# Altium integrated library Linear Technology Power Management uModule Regulators.IntLib: 166 symbols (part 59 of 67)
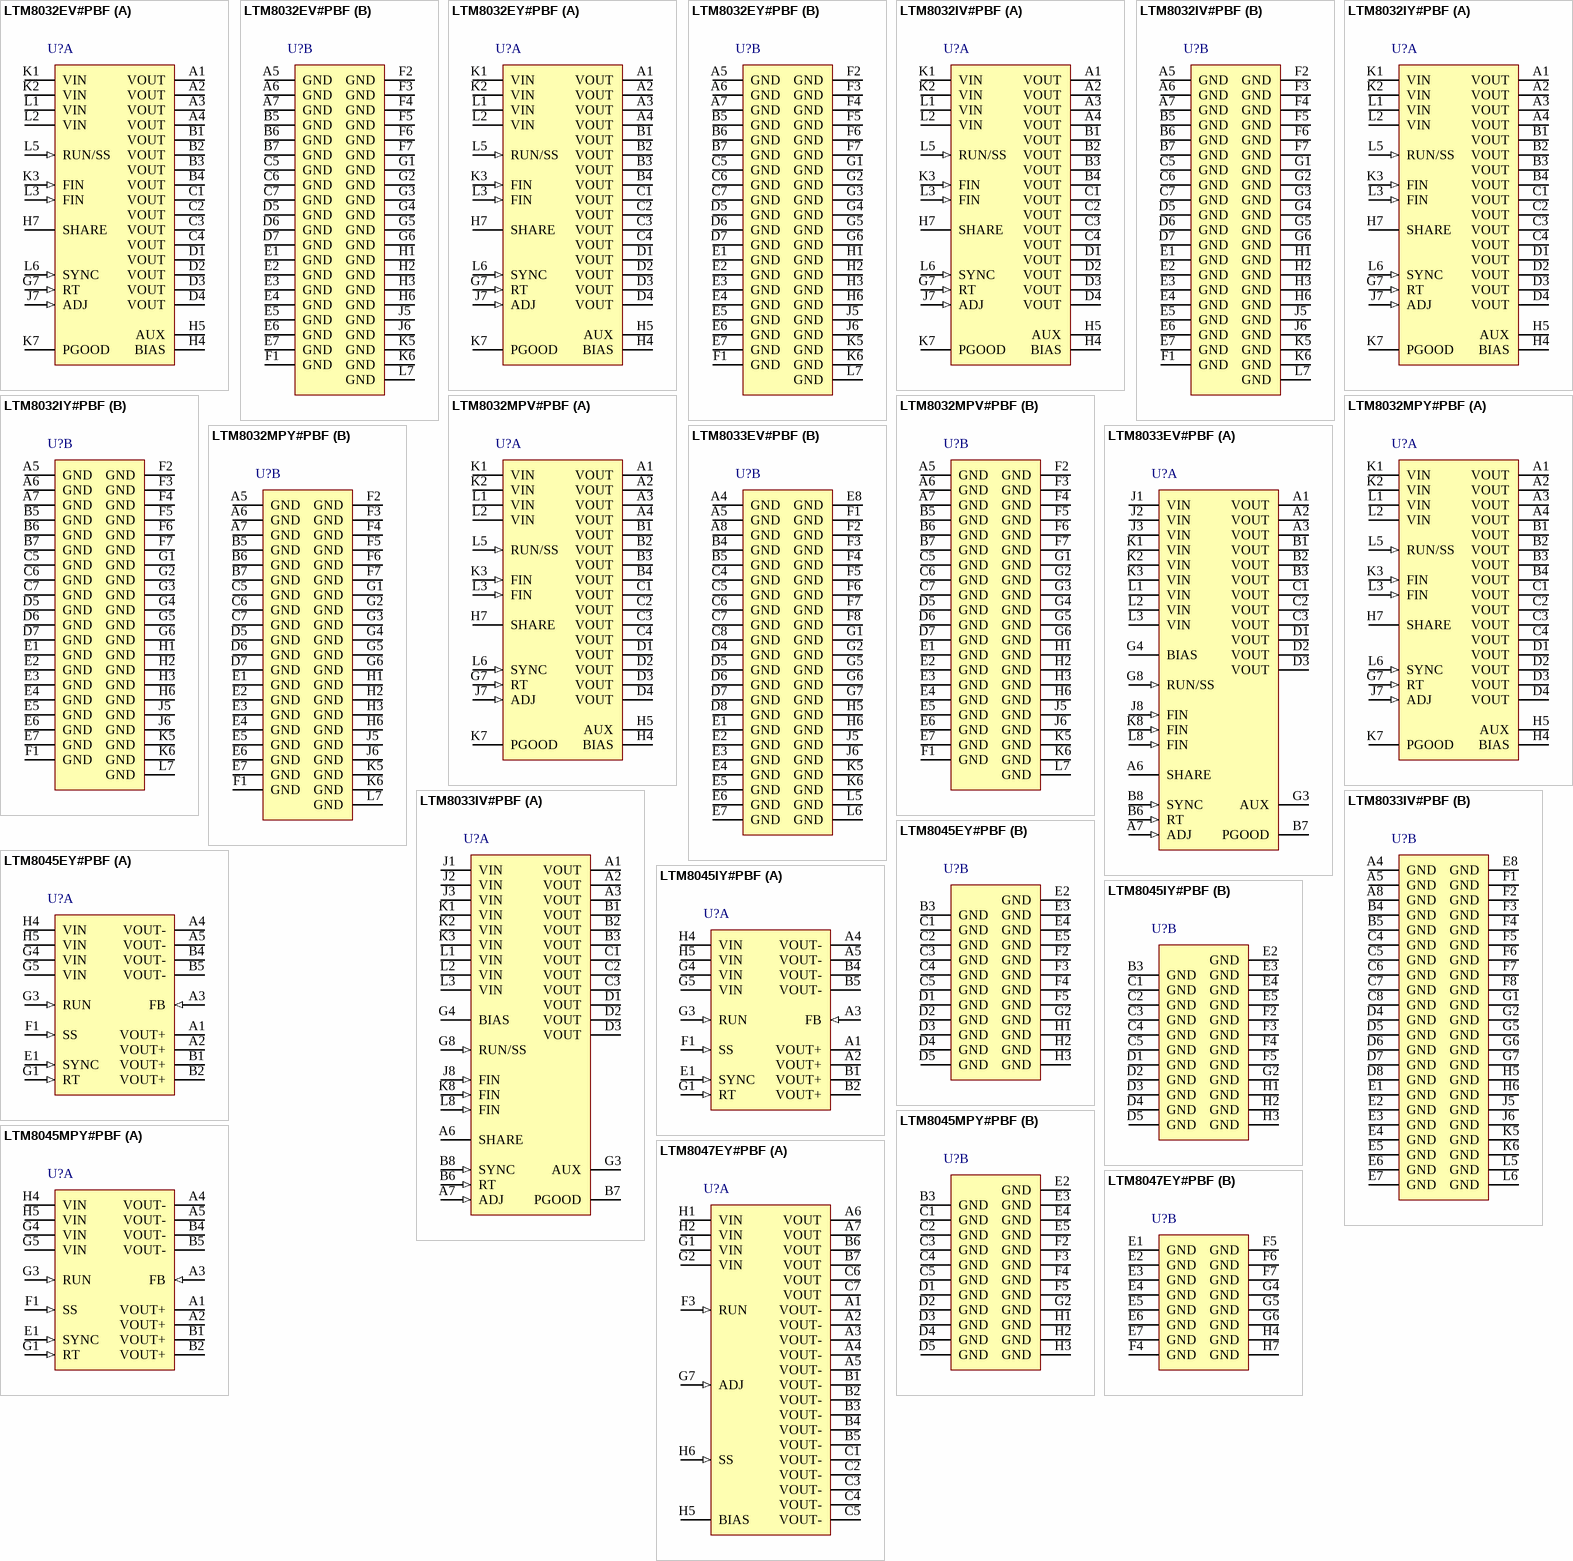
[diagram p85: symbols LTM8032EV#PBF to LTM8047EY#PBF]

## LTM8032MPV#PBF
designator U?
EN55022B Compliant 36 V, 2 A DC/DC uModule Regulator, 71-pin LGA, -55 to 125 degC, Pb-Free, Tray; Manufacturer: Linear Technology; PartNumber: LTM8032MPV#PBF; Extended Temp: E, I, MP; Frequency Adjust Range: 200kHz - 2.4MHz; Frequency Sync Range: 250kHz - 2MHz; Frequency(kHz): 2400; Ishutdown(uA): 1; Isupply(mA): 0.025; Output Current(A): 2; Switch Current(A): 3; Synchronous: no; Topology: Buck; Vin Max(V): 36; Vin Min(V): 3.6; DatasheetVersion: Rev. F; PackageVersion: Rev. A, 01/2013; PackageReference: LGA-71; PackageDescription: 71-Pin LGA, Body 15 x 9 mm, Pitch 1.27 mm; Supplier 1: Digi-Key; Supplier Part Number 1: LTM8032MPV#PBF-ND; Supplier 2: Newark; Supplier Part Number 2: 71P8120; Number of Outputs: 1; Packing: Tray; RoHS: TRUE; Tracking: no; Mounting Technology: Surface Mount; Code_JEDEC: MO-222; ComponentLink1Description: Manufacturer URL; ComponentLink1URL: http://www.linear.com/; ComponentLink2Description: Datasheet; ComponentLink2URL: http://cds.linear.com/docs/en/datasheet/8032ff.pdf; ComponentLink3Description: Package Specification; ComponentLink3URL: http://cds.linear.com/docs/en/packaging/05081823_A_lga71.pdf
footprint LT-LGA-71-15000X9000X2820_V (LGA, 71-Leads, Body 15x9mm, Pitch 1.27mm)
part A pins: A1 VOUT (power) "Power Output Pins. Apply the output filter capacitor and the output load between these pins and GND pins.", A2 VOUT (power) "Power Output Pins. Apply the output filter capacitor and the output load between these pins and GND pins.", A3 VOUT (power) "Power Output Pins. Apply the output filter capacitor and the output load between these pins and GND pins.", A4 VOUT (power) "Power Output Pins. Apply the output filter capacitor and the output load between these pins and GND pins.", B1 VOUT (power) "Power Output Pins. Apply the output filter capacitor and the output load between these pins and GND pins.", B2 VOUT (power) "Power Output Pins. Apply the output filter capacitor and the output load between these pins and GND pins.", B3 VOUT (power) "Power Output Pins. Apply the output filter capacitor and the output load between these pins and GND pins.", B4 VOUT (power) "Power Output Pins. Apply the output filter capacitor and the output load between these pins and GND pins.", C1 VOUT (power) "Power Output Pins. Apply the output filter capacitor and the output load between these pins and GND pins.", C2 VOUT (power) "Power Output Pins. Apply the output filter capacitor and the output load between these pins and GND pins.", C3 VOUT (power) "Power Output Pins. Apply the output filter capacitor and the output load between these pins and GND pins.", C4 VOUT (power) "Power Output Pins. Apply the output filter capacitor and the output load between these pins and GND pins.", D1 VOUT (power) "Power Output Pins. Apply the output filter capacitor and the output load between these pins and GND pins.", D2 VOUT (power) "Power Output Pins. Apply the output filter capacitor and the output load between these pins and GND pins.", D3 VOUT (power) "Power Output Pins. Apply the output filter capacitor and the output load between these pins and GND pins.", D4 VOUT (power) "Power Output Pins. Apply the output filter capacitor and the output load between these pins and GND pins.", G7 RT (in), H4 BIAS (power) "The BIAS pin connects to the internal power bus. Connect to a power source greater than 2.8V. If the output is greater than 2.8V, connect this pin to AUX. If the output voltage is less, connect this to a voltage source (See Datasheet)", H5 AUX (power) "Low Current Voltage Source for BIAS. The AUX pin is internally connected to VOUT and is placed adjacent to the BIAS pin to ease printed circuit board routing. Although this pin is internally connected to VOUT, do not connect (See Datasheet)", H7 SHARE, J7 ADJ (in), K1 VIN (power), K2 VIN (power), K3 FIN (in) "Filtered Input. This is the node after the input EMI filter. Use this only if there is a need to modify the behavior of the integrated EMI filter or if VIN rises or falls rapidly; otherwise, leave these pins unconnected. See (See Datasheet)", K7 PGOOD (oc) "The PGOOD pin is the open-collector output of an internal comparator. PGOOD remains low until the ADJ pin is within 10% of the final regulation voltage. The PGOOD output is valid when VIN is above 3.6V and RUN/SS is high. If (See Datasheet)", L1 VIN (power), L2 VIN (power), L3 FIN (in) "Filtered Input. This is the node after the input EMI filter. Use this only if there is a need to modify the behavior of the integrated EMI filter or if VIN rises or falls rapidly; otherwise, leave these pins unconnected. See (See Datasheet)", L5 RUN/SS (in), L6 SYNC (in) "This is the external clock synchronization input. Ground this pin for low ripple Burst Mode(R) operation at low output loads. Tie to a stable voltage source greater than 0.7V to disable Burst Mode operation. Do not leave (See Datasheet)"
part B pins: A5 GND (power), A6 GND (power), A7 GND (power), B5 GND (power), B6 GND (power), B7 GND (power), C5 GND (power), C6 GND (power), C7 GND (power), D5 GND (power), D6 GND (power), D7 GND (power), E1 GND (power), E2 GND (power), E3 GND (power), E4 GND (power), E5 GND (power), E6 GND (power), E7 GND (power), F1 GND (power), F2 GND (power), F3 GND (power), F4 GND (power), F5 GND (power), F6 GND (power), F7 GND (power), G1 GND (power), G2 GND (power), G3 GND (power), G4 GND (power), G5 GND (power), G6 GND (power), H1 GND (power), H2 GND (power), H3 GND (power), H6 GND (power), J5 GND (power), J6 GND (power), K5 GND (power), K6 GND (power), L7 GND (power)

## LTM8032MPY#PBF
designator U?
EN55022B Compliant 36 V, 2 A DC/DC uModule Regulator, 71-pin BGA, -55 to 125 degC, Pb-Free, Tray; Manufacturer: Linear Technology; PartNumber: LTM8032MPY#PBF; Extended Temp: E, I, MP; Frequency Adjust Range: 200kHz - 2.4MHz; Frequency Sync Range: 250kHz - 2MHz; Frequency(kHz): 2400; Ishutdown(uA): 1; Isupply(mA): 0.025; Output Current(A): 2; Switch Current(A): 3; Synchronous: no; Topology: Buck; Vin Max(V): 36; Vin Min(V): 3.6; DatasheetVersion: Rev. F; PackageVersion: Rev. A, 01/2013; PackageReference: BGA-71; PackageDescription: 71-Ball BGA, Body 15 x 9 mm, Pitch 1.27 mm; Supplier 1: Digi-Key; Supplier Part Number 1: LTM8032MPY#PBF-ND; Supplier 2: Farnell; Supplier Part Number 2: 2068086; Number of Outputs: 1; Packing: Tray; RoHS: TRUE; Tracking: no; Mounting Technology: Surface Mount; Code_JEDEC: MS-028; ComponentLink1Description: Manufacturer URL; ComponentLink1URL: http://www.linear.com/; ComponentLink2Description: Datasheet; ComponentLink2URL: http://cds.linear.com/docs/en/datasheet/8032ff.pdf; ComponentLink3Description: Package Specification; ComponentLink3URL: http://cds.linear.com/docs/en/packaging/05081885_A_bga71.pdf
footprint LT-BGA-71-15000X9000X3420 (BGA, 71-Balls, Body 15x9mm, Pitch 1.27mm)
part A pins: A1 VOUT (power) "Power Output Pins. Apply the output filter capacitor and the output load between these pins and GND pins.", A2 VOUT (power) "Power Output Pins. Apply the output filter capacitor and the output load between these pins and GND pins.", A3 VOUT (power) "Power Output Pins. Apply the output filter capacitor and the output load between these pins and GND pins.", A4 VOUT (power) "Power Output Pins. Apply the output filter capacitor and the output load between these pins and GND pins.", B1 VOUT (power) "Power Output Pins. Apply the output filter capacitor and the output load between these pins and GND pins.", B2 VOUT (power) "Power Output Pins. Apply the output filter capacitor and the output load between these pins and GND pins.", B3 VOUT (power) "Power Output Pins. Apply the output filter capacitor and the output load between these pins and GND pins.", B4 VOUT (power) "Power Output Pins. Apply the output filter capacitor and the output load between these pins and GND pins.", C1 VOUT (power) "Power Output Pins. Apply the output filter capacitor and the output load between these pins and GND pins.", C2 VOUT (power) "Power Output Pins. Apply the output filter capacitor and the output load between these pins and GND pins.", C3 VOUT (power) "Power Output Pins. Apply the output filter capacitor and the output load between these pins and GND pins.", C4 VOUT (power) "Power Output Pins. Apply the output filter capacitor and the output load between these pins and GND pins.", D1 VOUT (power) "Power Output Pins. Apply the output filter capacitor and the output load between these pins and GND pins.", D2 VOUT (power) "Power Output Pins. Apply the output filter capacitor and the output load between these pins and GND pins.", D3 VOUT (power) "Power Output Pins. Apply the output filter capacitor and the output load between these pins and GND pins.", D4 VOUT (power) "Power Output Pins. Apply the output filter capacitor and the output load between these pins and GND pins.", G7 RT (in), H4 BIAS (power) "The BIAS pin connects to the internal power bus. Connect to a power source greater than 2.8V. If the output is greater than 2.8V, connect this pin to AUX. If the output voltage is less, connect this to a voltage source (See Datasheet)", H5 AUX (power) "Low Current Voltage Source for BIAS. The AUX pin is internally connected to VOUT and is placed adjacent to the BIAS pin to ease printed circuit board routing. Although this pin is internally connected to VOUT, do not connect (See Datasheet)", H7 SHARE, J7 ADJ (in), K1 VIN (power), K2 VIN (power), K3 FIN (in) "Filtered Input. This is the node after the input EMI filter. Use this only if there is a need to modify the behavior of the integrated EMI filter or if VIN rises or falls rapidly; otherwise, leave these pins unconnected. See (See Datasheet)", K7 PGOOD (oc) "The PGOOD pin is the open-collector output of an internal comparator. PGOOD remains low until the ADJ pin is within 10% of the final regulation voltage. The PGOOD output is valid when VIN is above 3.6V and RUN/SS is high. If (See Datasheet)", L1 VIN (power), L2 VIN (power), L3 FIN (in) "Filtered Input. This is the node after the input EMI filter. Use this only if there is a need to modify the behavior of the integrated EMI filter or if VIN rises or falls rapidly; otherwise, leave these pins unconnected. See (See Datasheet)", L5 RUN/SS (in), L6 SYNC (in) "This is the external clock synchronization input. Ground this pin for low ripple Burst Mode(R) operation at low output loads. Tie to a stable voltage source greater than 0.7V to disable Burst Mode operation. Do not leave (See Datasheet)"
part B pins: A5 GND (power), A6 GND (power), A7 GND (power), B5 GND (power), B6 GND (power), B7 GND (power), C5 GND (power), C6 GND (power), C7 GND (power), D5 GND (power), D6 GND (power), D7 GND (power), E1 GND (power), E2 GND (power), E3 GND (power), E4 GND (power), E5 GND (power), E6 GND (power), E7 GND (power), F1 GND (power), F2 GND (power), F3 GND (power), F4 GND (power), F5 GND (power), F6 GND (power), F7 GND (power), G1 GND (power), G2 GND (power), G3 GND (power), G4 GND (power), G5 GND (power), G6 GND (power), H1 GND (power), H2 GND (power), H3 GND (power), H6 GND (power), J5 GND (power), J6 GND (power), K5 GND (power), K6 GND (power), L7 GND (power)

## LTM8033EV#PBF
designator U?
Ultralow Noise EMC 36 VIN, 3 A DC/DC uModule Regulator, 76-pin LGA, -40 to 125 degC, Pb-Free, Tray; Manufacturer: Linear Technology; PartNumber: LTM8033EV#PBF; Extended Temp: E, I, MP; Frequency Adjust Range: 200kHz - 2.4MHz; Frequency Sync Range: 200kHz - 2MHz; Frequency(kHz): 2400; Ishutdown(uA): 0.01; Isupply(mA): 0.075; Number of Outputs: 1; Output Current(A): 3; Switch Current(A): 4; Synchronous: no; Topology: Buck; Vin Max(V): 36; Vin Min(V): 3.6; Vout Max(V): 24; Vout Min(V): 0.8; PackageVersion: Rev. A, 01/2013; PackageReference: LGA-76; PackageDescription: 76-Pin LGA, Body 15 x 11.25 mm, Pitch 1.27 mm; Supplier 1: Digi-Key; Supplier Part Number 1: LTM8033EV#PBF-ND; Supplier 2: Farnell; Supplier Part Number 2: 1847472; Supplier 3: Farnell; Supplier Part Number 3: 1838298; Supplier 4: Newark; Supplier Part Number 4: 84R5012; Packing: Tray; RoHS: TRUE; Tracking: no; Mounting Technology: Surface Mount; Code_JEDEC: MO-222; ComponentLink1Description: Manufacturer URL; ComponentLink1URL: http://www.linear.com/; ComponentLink2Description: Datasheet; ComponentLink2URL: http://cds.linear.com/docs/en/datasheet/8033f.pdf; ComponentLink3Description: Package Specification; ComponentLink3URL: http://cds.linear.com/docs/en/packaging/05081560_A_lga76.pdf
footprint LT-LGA-76-15000X11250X4320_V (LGA, 76-Leads, Body 15x11.25mm, Pitch 1.27mm)
part A pins: A1 VOUT (power) "Power Output Pins. Apply the output filter capacitor and the output load between these pins and GND pins.", A2 VOUT (power) "Power Output Pins. Apply the output filter capacitor and the output load between these pins and GND pins.", A3 VOUT (power) "Power Output Pins. Apply the output filter capacitor and the output load between these pins and GND pins.", A6 SHARE "Tie this to the SHARE pin of another LTM8033 when paralleling the outputs. Otherwise, do not connect.", A7 ADJ (in) "The LTM8033 regulates its ADJ pin to 0.79V. Connect the adjust resistor from this pin to ground. The value of RADJ is given by the equation RADJ = 394.21/(VOUT - 0.79), where RADJ is in kohm.", B1 VOUT (power) "Power Output Pins. Apply the output filter capacitor and the output load between these pins and GND pins.", B2 VOUT (power) "Power Output Pins. Apply the output filter capacitor and the output load between these pins and GND pins.", B3 VOUT (power) "Power Output Pins. Apply the output filter capacitor and the output load between these pins and GND pins.", B6 RT (in) "The RT pin is used to program the switching frequency of the LTM8033 by connecting a resistor from this pin to ground. The Applications Information section of the data sheet includes a table to determine the resistance value (See Datasheet)", B7 PGOOD (oc) "The PGOOD pin is the open-collector output of an internal comparator. PGOOD remains low until the ADJ pin is greater than 90% of the final regulation voltage. PGOOD output is valid when VIN is above 3.6V and RUN/SS is high. (See Datasheet)", B8 SYNC (in) "This is the external clock synchronization input. Ground this pin for low ripple Burst Mode(R) operation at low output loads. Tie to a stable voltage source greater than 0.7V to disable Burst Mode operation. Do not leave (See Datasheet)", C1 VOUT (power) "Power Output Pins. Apply the output filter capacitor and the output load between these pins and GND pins.", C2 VOUT (power) "Power Output Pins. Apply the output filter capacitor and the output load between these pins and GND pins.", C3 VOUT (power) "Power Output Pins. Apply the output filter capacitor and the output load between these pins and GND pins.", D1 VOUT (power) "Power Output Pins. Apply the output filter capacitor and the output load between these pins and GND pins.", D2 VOUT (power) "Power Output Pins. Apply the output filter capacitor and the output load between these pins and GND pins.", D3 VOUT (power) "Power Output Pins. Apply the output filter capacitor and the output load between these pins and GND pins.", G3 AUX (power) "Low Current Voltage Source for BIAS. In many designs, the BIAS pin is simply connected to VOUT. The AUX pin is internally connected to VOUT and is placed adjacent to the BIAS pin to ease printed circuit board routing. (See Datasheet)", G4 BIAS (power) "The BIAS pin connects to the internal power bus. Connect to a power source greater than 2.8V and less than 25V. If the output is greater than 2.8V, connect this pin there. If the output voltage is less, connect this to a (See Datasheet)", G8 RUN/SS (in) "Pull the RUN/SS pin below 0.2V to shut down the LTM8033. Tie to 2.5V or more for normal operation. If the shutdown feature is not used, tie this pin to the VIN pin. RUN/SS also provides a soft-start function; see the (See Datasheet)", J1 VIN (power) "The VIN pin supplies current to the LTM8033’s internal regulator and to the internal power switch. This pin must be locally bypassed with an external, low ESR capacitor; see Table 1 for recommended values. Ensure that VI(See Datasheet)", J2 VIN (power) "The VIN pin supplies current to the LTM8033’s internal regulator and to the internal power switch. This pin must be locally bypassed with an external, low ESR capacitor; see Table 1 for recommended values. Ensure that VI(See Datasheet)", J3 VIN (power) "The VIN pin supplies current to the LTM8033’s internal regulator and to the internal power switch. This pin must be locally bypassed with an external, low ESR capacitor; see Table 1 for recommended values. Ensure that VI(See Datasheet)", J8 FIN (in) "Filtered Input. This is the node after the input EMI filter. Apply the capacitor recommended by Table 1. Additional capacitance may be applied if there is a need to modify the behavior of the integrated EMI filter; (See Datasheet)", K1 VIN (power) "The VIN pin supplies current to the LTM8033’s internal regulator and to the internal power switch. This pin must be locally bypassed with an external, low ESR capacitor; see Table 1 for recommended values. Ensure that VI(See Datasheet)", K2 VIN (power) "The VIN pin supplies current to the LTM8033’s internal regulator and to the internal power switch. This pin must be locally bypassed with an external, low ESR capacitor; see Table 1 for recommended values. Ensure that VI(See Datasheet)", K3 VIN (power) "The VIN pin supplies current to the LTM8033’s internal regulator and to the internal power switch. This pin must be locally bypassed with an external, low ESR capacitor; see Table 1 for recommended values. Ensure that VI(See Datasheet)", K8 FIN (in) "Filtered Input. This is the node after the input EMI filter. Apply the capacitor recommended by Table 1. Additional capacitance may be applied if there is a need to modify the behavior of the integrated EMI filter; (See Datasheet)", L1 VIN (power) "The VIN pin supplies current to the LTM8033’s internal regulator and to the internal power switch. This pin must be locally bypassed with an external, low ESR capacitor; see Table 1 for recommended values. Ensure that VI(See Datasheet)", L2 VIN (power) "The VIN pin supplies current to the LTM8033’s internal regulator and to the internal power switch. This pin must be locally bypassed with an external, low ESR capacitor; see Table 1 for recommended values. Ensure that VI(See Datasheet)", L3 VIN (power) "The VIN pin supplies current to the LTM8033’s internal regulator and to the internal power switch. This pin must be locally bypassed with an external, low ESR capacitor; see Table 1 for recommended values. Ensure that VI(See Datasheet)", L8 FIN (in) "Filtered Input. This is the node after the input EMI filter. Apply the capacitor recommended by Table 1. Additional capacitance may be applied if there is a need to modify the behavior of the integrated EMI filter; (See Datasheet)"
part B pins: A4 GND (power) "Tie these GND pins to a local ground plane below the LTM8033 and the circuit components. Return the feedback divider (RADJ) to this net.", A5 GND (power) "Tie these GND pins to a local ground plane below the LTM8033 and the circuit components. Return the feedback divider (RADJ) to this net.", A8 GND (power) "Tie these GND pins to a local ground plane below the LTM8033 and the circuit components. Return the feedback divider (RADJ) to this net.", B4 GND (power) "Tie these GND pins to a local ground plane below the LTM8033 and the circuit components. Return the feedback divider (RADJ) to this net.", B5 GND (power) "Tie these GND pins to a local ground plane below the LTM8033 and the circuit components. Return the feedback divider (RADJ) to this net.", C4 GND (power) "Tie these GND pins to a local ground plane below the LTM8033 and the circuit components. Return the feedback divider (RADJ) to this net.", C5 GND (power) "Tie these GND pins to a local ground plane below the LTM8033 and the circuit components. Return the feedback divider (RADJ) to this net.", C6 GND (power) "Tie these GND pins to a local ground plane below the LTM8033 and the circuit components. Return the feedback divider (RADJ) to this net.", C7 GND (power) "Tie these GND pins to a local ground plane below the LTM8033 and the circuit components. Return the feedback divider (RADJ) to this net.", C8 GND (power) "Tie these GND pins to a local ground plane below the LTM8033 and the circuit components. Return the feedback divider (RADJ) to this net. Tie these GND pins to a local ground plane below the LTM8033 and the circuit components.(See Datasheet)", D4 GND (power) "Tie these GND pins to a local ground plane below the LTM8033 and the circuit components. Return the feedback divider (RADJ) to this net.", D5 GND (power) "Tie these GND pins to a local ground plane below the LTM8033 and the circuit components. Return the feedback divider (RADJ) to this net.", D6 GND (power) "Tie these GND pins to a local ground plane below the LTM8033 and the circuit components. Return the feedback divider (RADJ) to this net.", D7 GND (power) "Tie these GND pins to a local ground plane below the LTM8033 and the circuit components. Return the feedback divider (RADJ) to this net.", D8 GND (power) "Tie these GND pins to a local ground plane below the LTM8033 and the circuit components. Return the feedback divider (RADJ) to this net.", E1 GND (power) "Tie these GND pins to a local ground plane below the LTM8033 and the circuit components. Return the feedback divider (RADJ) to this net.", E2 GND (power) "Tie these GND pins to a local ground plane below the LTM8033 and the circuit components. Return the feedback divider (RADJ) to this net.", E3 GND (power) "Tie these GND pins to a local ground plane below the LTM8033 and the circuit components. Return the feedback divider (RADJ) to this net.", E4 GND (power) "Tie these GND pins to a local ground plane below the LTM8033 and the circuit components. Return the feedback divider (RADJ) to this net.", E5 GND (power) "Tie these GND pins to a local ground plane below the LTM8033 and the circuit components. Return the feedback divider (RADJ) to this net.", E6 GND (power) "Tie these GND pins to a local ground plane below the LTM8033 and the circuit components. Return the feedback divider (RADJ) to this net.", E7 GND (power) "Tie these GND pins to a local ground plane below the LTM8033 and the circuit components. Return the feedback divider (RADJ) to this net.", E8 GND (power) "Tie these GND pins to a local ground plane below the LTM8033 and the circuit components. Return the feedback divider (RADJ) to this net.", F1 GND (power) "Tie these GND pins to a local ground plane below the LTM8033 and the circuit components. Return the feedback divider (RADJ) to this net.", F2 GND (power) "Tie these GND pins to a local ground plane below the LTM8033 and the circuit components. Return the feedback divider (RADJ) to this net.", F3 GND (power) "Tie these GND pins to a local ground plane below the LTM8033 and the circuit components. Return the feedback divider (RADJ) to this net.", F4 GND (power) "Tie these GND pins to a local ground plane below the LTM8033 and the circuit components. Return the feedback divider (RADJ) to this net.", F5 GND (power) "Tie these GND pins to a local ground plane below the LTM8033 and the circuit components. Return the feedback divider (RADJ) to this net.", F6 GND (power) "Tie these GND pins to a local ground plane below the LTM8033 and the circuit components. Return the feedback divider (RADJ) to this net.", F7 GND (power) "Tie these GND pins to a local ground plane below the LTM8033 and the circuit components. Return the feedback divider (RADJ) to this net.", F8 GND (power) "Tie these GND pins to a local ground plane below the LTM8033 and the circuit components. Return the feedback divider (RADJ) to this net.", G1 GND (power) "Tie these GND pins to a local ground plane below the LTM8033 and the circuit components. Return the feedback divider (RADJ) to this net.", G2 GND (power) "Tie these GND pins to a local ground plane below the LTM8033 and the circuit components. Return the feedback divider (RADJ) to this net.", G5 GND (power) "Tie these GND pins to a local ground plane below the LTM8033 and the circuit components. Return the feedback divider (RADJ) to this net.", G6 GND (power) "Tie these GND pins to a local ground plane below the LTM8033 and the circuit components. Return the feedback divider (RADJ) to this net.", G7 GND (power) "Tie these GND pins to a local ground plane below the LTM8033 and the circuit components. Return the feedback divider (RADJ) to this net.", H5 GND (power) "Tie these GND pins to a local ground plane below the LTM8033 and the circuit components. Return the feedback divider (RADJ) to this net.", H6 GND (power) "Tie these GND pins to a local ground plane below the LTM8033 and the circuit components. Return the feedback divider (RADJ) to this net.", J5 GND (power) "Tie these GND pins to a local ground plane below the LTM8033 and the circuit components. Return the feedback divider (RADJ) to this net.", J6 GND (power) "Tie these GND pins to a local ground plane below the LTM8033 and the circuit components. Return the feedback divider (RADJ) to this net.", K5 GND (power) "Tie these GND pins to a local ground plane below the LTM8033 and the circuit components. Return the feedback divider (RADJ) to this net.", K6 GND (power) "Tie these GND pins to a local ground plane below the LTM8033 and the circuit components. Return the feedback divider (RADJ) to this net.", L5 GND (power) "Tie these GND pins to a local ground plane below the LTM8033 and the circuit components. Return the feedback divider (RADJ) to this net.", L6 GND (power) "Tie these GND pins to a local ground plane below the LTM8033 and the circuit components. Return the feedback divider (RADJ) to this net."

## LTM8033IV#PBF
designator U?
Ultralow Noise EMC 36 VIN, 3 A DC/DC uModule Regulator, 76-pin LGA, -40 to 125 degC, Pb-Free, Tray; Manufacturer: Linear Technology; PartNumber: LTM8033IV#PBF; Extended Temp: E, I, MP; Frequency Adjust Range: 200kHz - 2.4MHz; Frequency Sync Range: 200kHz - 2MHz; Frequency(kHz): 2400; Ishutdown(uA): 0.01; Isupply(mA): 0.075; Number of Outputs: 1; Output Current(A): 3; Switch Current(A): 4; Synchronous: no; Topology: Buck; Vin Max(V): 36; Vin Min(V): 3.6; Vout Max(V): 24; Vout Min(V): 0.8; PackageVersion: Rev. A, 01/2013; PackageReference: LGA-76; PackageDescription: 76-Pin LGA, Body 15 x 11.25 mm, Pitch 1.27 mm; Supplier 1: Digi-Key; Supplier Part Number 1: LTM8033IV#PBF-ND; Supplier 2: Farnell; Supplier Part Number 2: 1847473; Supplier 3: Farnell; Supplier Part Number 3: 1838299; Supplier 4: Newark; Supplier Part Number 4: 84R5013; Packing: Tray; RoHS: TRUE; Tracking: no; Mounting Technology: Surface Mount; Code_JEDEC: MO-222; ComponentLink1Description: Manufacturer URL; ComponentLink1URL: http://www.linear.com/; ComponentLink2Description: Datasheet; ComponentLink2URL: http://cds.linear.com/docs/en/datasheet/8033f.pdf; ComponentLink3Description: Package Specification; ComponentLink3URL: http://cds.linear.com/docs/en/packaging/05081560_A_lga76.pdf
footprint LT-LGA-76-15000X11250X4320_V (LGA, 76-Leads, Body 15x11.25mm, Pitch 1.27mm)
part A pins: A1 VOUT (power) "Power Output Pins. Apply the output filter capacitor and the output load between these pins and GND pins.", A2 VOUT (power) "Power Output Pins. Apply the output filter capacitor and the output load between these pins and GND pins.", A3 VOUT (power) "Power Output Pins. Apply the output filter capacitor and the output load between these pins and GND pins.", A6 SHARE "Tie this to the SHARE pin of another LTM8033 when paralleling the outputs. Otherwise, do not connect.", A7 ADJ (in) "The LTM8033 regulates its ADJ pin to 0.79V. Connect the adjust resistor from this pin to ground. The value of RADJ is given by the equation RADJ = 394.21/(VOUT - 0.79), where RADJ is in kohm.", B1 VOUT (power) "Power Output Pins. Apply the output filter capacitor and the output load between these pins and GND pins.", B2 VOUT (power) "Power Output Pins. Apply the output filter capacitor and the output load between these pins and GND pins.", B3 VOUT (power) "Power Output Pins. Apply the output filter capacitor and the output load between these pins and GND pins.", B6 RT (in) "The RT pin is used to program the switching frequency of the LTM8033 by connecting a resistor from this pin to ground. The Applications Information section of the data sheet includes a table to determine the resistance value (See Datasheet)", B7 PGOOD (oc) "The PGOOD pin is the open-collector output of an internal comparator. PGOOD remains low until the ADJ pin is greater than 90% of the final regulation voltage. PGOOD output is valid when VIN is above 3.6V and RUN/SS is high. (See Datasheet)", B8 SYNC (in) "This is the external clock synchronization input. Ground this pin for low ripple Burst Mode(R) operation at low output loads. Tie to a stable voltage source greater than 0.7V to disable Burst Mode operation. Do not leave (See Datasheet)", C1 VOUT (power) "Power Output Pins. Apply the output filter capacitor and the output load between these pins and GND pins.", C2 VOUT (power) "Power Output Pins. Apply the output filter capacitor and the output load between these pins and GND pins.", C3 VOUT (power) "Power Output Pins. Apply the output filter capacitor and the output load between these pins and GND pins.", D1 VOUT (power) "Power Output Pins. Apply the output filter capacitor and the output load between these pins and GND pins.", D2 VOUT (power) "Power Output Pins. Apply the output filter capacitor and the output load between these pins and GND pins.", D3 VOUT (power) "Power Output Pins. Apply the output filter capacitor and the output load between these pins and GND pins.", G3 AUX (power) "Low Current Voltage Source for BIAS. In many designs, the BIAS pin is simply connected to VOUT. The AUX pin is internally connected to VOUT and is placed adjacent to the BIAS pin to ease printed circuit board routing. (See Datasheet)", G4 BIAS (power) "The BIAS pin connects to the internal power bus. Connect to a power source greater than 2.8V and less than 25V. If the output is greater than 2.8V, connect this pin there. If the output voltage is less, connect this to a (See Datasheet)", G8 RUN/SS (in) "Pull the RUN/SS pin below 0.2V to shut down the LTM8033. Tie to 2.5V or more for normal operation. If the shutdown feature is not used, tie this pin to the VIN pin. RUN/SS also provides a soft-start function; see the (See Datasheet)", J1 VIN (power) "The VIN pin supplies current to the LTM8033’s internal regulator and to the internal power switch. This pin must be locally bypassed with an external, low ESR capacitor; see Table 1 for recommended values. Ensure that VI(See Datasheet)", J2 VIN (power) "The VIN pin supplies current to the LTM8033’s internal regulator and to the internal power switch. This pin must be locally bypassed with an external, low ESR capacitor; see Table 1 for recommended values. Ensure that VI(See Datasheet)", J3 VIN (power) "The VIN pin supplies current to the LTM8033’s internal regulator and to the internal power switch. This pin must be locally bypassed with an external, low ESR capacitor; see Table 1 for recommended values. Ensure that VI(See Datasheet)", J8 FIN (in) "Filtered Input. This is the node after the input EMI filter. Apply the capacitor recommended by Table 1. Additional capacitance may be applied if there is a need to modify the behavior of the integrated EMI filter; (See Datasheet)", K1 VIN (power) "The VIN pin supplies current to the LTM8033’s internal regulator and to the internal power switch. This pin must be locally bypassed with an external, low ESR capacitor; see Table 1 for recommended values. Ensure that VI(See Datasheet)", K2 VIN (power) "The VIN pin supplies current to the LTM8033’s internal regulator and to the internal power switch. This pin must be locally bypassed with an external, low ESR capacitor; see Table 1 for recommended values. Ensure that VI(See Datasheet)", K3 VIN (power) "The VIN pin supplies current to the LTM8033’s internal regulator and to the internal power switch. This pin must be locally bypassed with an external, low ESR capacitor; see Table 1 for recommended values. Ensure that VI(See Datasheet)", K8 FIN (in) "Filtered Input. This is the node after the input EMI filter. Apply the capacitor recommended by Table 1. Additional capacitance may be applied if there is a need to modify the behavior of the integrated EMI filter; (See Datasheet)", L1 VIN (power) "The VIN pin supplies current to the LTM8033’s internal regulator and to the internal power switch. This pin must be locally bypassed with an external, low ESR capacitor; see Table 1 for recommended values. Ensure that VI(See Datasheet)", L2 VIN (power) "The VIN pin supplies current to the LTM8033’s internal regulator and to the internal power switch. This pin must be locally bypassed with an external, low ESR capacitor; see Table 1 for recommended values. Ensure that VI(See Datasheet)", L3 VIN (power) "The VIN pin supplies current to the LTM8033’s internal regulator and to the internal power switch. This pin must be locally bypassed with an external, low ESR capacitor; see Table 1 for recommended values. Ensure that VI(See Datasheet)", L8 FIN (in) "Filtered Input. This is the node after the input EMI filter. Apply the capacitor recommended by Table 1. Additional capacitance may be applied if there is a need to modify the behavior of the integrated EMI filter; (See Datasheet)"
part B pins: A4 GND (power) "Tie these GND pins to a local ground plane below the LTM8033 and the circuit components. Return the feedback divider (RADJ) to this net.", A5 GND (power) "Tie these GND pins to a local ground plane below the LTM8033 and the circuit components. Return the feedback divider (RADJ) to this net.", A8 GND (power) "Tie these GND pins to a local ground plane below the LTM8033 and the circuit components. Return the feedback divider (RADJ) to this net.", B4 GND (power) "Tie these GND pins to a local ground plane below the LTM8033 and the circuit components. Return the feedback divider (RADJ) to this net.", B5 GND (power) "Tie these GND pins to a local ground plane below the LTM8033 and the circuit components. Return the feedback divider (RADJ) to this net.", C4 GND (power) "Tie these GND pins to a local ground plane below the LTM8033 and the circuit components. Return the feedback divider (RADJ) to this net.", C5 GND (power) "Tie these GND pins to a local ground plane below the LTM8033 and the circuit components. Return the feedback divider (RADJ) to this net.", C6 GND (power) "Tie these GND pins to a local ground plane below the LTM8033 and the circuit components. Return the feedback divider (RADJ) to this net.", C7 GND (power) "Tie these GND pins to a local ground plane below the LTM8033 and the circuit components. Return the feedback divider (RADJ) to this net.", C8 GND (power) "Tie these GND pins to a local ground plane below the LTM8033 and the circuit components. Return the feedback divider (RADJ) to this net. Tie these GND pins to a local ground plane below the LTM8033 and the circuit components.(See Datasheet)", D4 GND (power) "Tie these GND pins to a local ground plane below the LTM8033 and the circuit components. Return the feedback divider (RADJ) to this net.", D5 GND (power) "Tie these GND pins to a local ground plane below the LTM8033 and the circuit components. Return the feedback divider (RADJ) to this net.", D6 GND (power) "Tie these GND pins to a local ground plane below the LTM8033 and the circuit components. Return the feedback divider (RADJ) to this net.", D7 GND (power) "Tie these GND pins to a local ground plane below the LTM8033 and the circuit components. Return the feedback divider (RADJ) to this net.", D8 GND (power) "Tie these GND pins to a local ground plane below the LTM8033 and the circuit components. Return the feedback divider (RADJ) to this net.", E1 GND (power) "Tie these GND pins to a local ground plane below the LTM8033 and the circuit components. Return the feedback divider (RADJ) to this net.", E2 GND (power) "Tie these GND pins to a local ground plane below the LTM8033 and the circuit components. Return the feedback divider (RADJ) to this net.", E3 GND (power) "Tie these GND pins to a local ground plane below the LTM8033 and the circuit components. Return the feedback divider (RADJ) to this net.", E4 GND (power) "Tie these GND pins to a local ground plane below the LTM8033 and the circuit components. Return the feedback divider (RADJ) to this net.", E5 GND (power) "Tie these GND pins to a local ground plane below the LTM8033 and the circuit components. Return the feedback divider (RADJ) to this net.", E6 GND (power) "Tie these GND pins to a local ground plane below the LTM8033 and the circuit components. Return the feedback divider (RADJ) to this net.", E7 GND (power) "Tie these GND pins to a local ground plane below the LTM8033 and the circuit components. Return the feedback divider (RADJ) to this net.", E8 GND (power) "Tie these GND pins to a local ground plane below the LTM8033 and the circuit components. Return the feedback divider (RADJ) to this net.", F1 GND (power) "Tie these GND pins to a local ground plane below the LTM8033 and the circuit components. Return the feedback divider (RADJ) to this net.", F2 GND (power) "Tie these GND pins to a local ground plane below the LTM8033 and the circuit components. Return the feedback divider (RADJ) to this net.", F3 GND (power) "Tie these GND pins to a local ground plane below the LTM8033 and the circuit components. Return the feedback divider (RADJ) to this net.", F4 GND (power) "Tie these GND pins to a local ground plane below the LTM8033 and the circuit components. Return the feedback divider (RADJ) to this net.", F5 GND (power) "Tie these GND pins to a local ground plane below the LTM8033 and the circuit components. Return the feedback divider (RADJ) to this net.", F6 GND (power) "Tie these GND pins to a local ground plane below the LTM8033 and the circuit components. Return the feedback divider (RADJ) to this net.", F7 GND (power) "Tie these GND pins to a local ground plane below the LTM8033 and the circuit components. Return the feedback divider (RADJ) to this net.", F8 GND (power) "Tie these GND pins to a local ground plane below the LTM8033 and the circuit components. Return the feedback divider (RADJ) to this net.", G1 GND (power) "Tie these GND pins to a local ground plane below the LTM8033 and the circuit components. Return the feedback divider (RADJ) to this net.", G2 GND (power) "Tie these GND pins to a local ground plane below the LTM8033 and the circuit components. Return the feedback divider (RADJ) to this net.", G5 GND (power) "Tie these GND pins to a local ground plane below the LTM8033 and the circuit components. Return the feedback divider (RADJ) to this net.", G6 GND (power) "Tie these GND pins to a local ground plane below the LTM8033 and the circuit components. Return the feedback divider (RADJ) to this net.", G7 GND (power) "Tie these GND pins to a local ground plane below the LTM8033 and the circuit components. Return the feedback divider (RADJ) to this net.", H5 GND (power) "Tie these GND pins to a local ground plane below the LTM8033 and the circuit components. Return the feedback divider (RADJ) to this net.", H6 GND (power) "Tie these GND pins to a local ground plane below the LTM8033 and the circuit components. Return the feedback divider (RADJ) to this net.", J5 GND (power) "Tie these GND pins to a local ground plane below the LTM8033 and the circuit components. Return the feedback divider (RADJ) to this net.", J6 GND (power) "Tie these GND pins to a local ground plane below the LTM8033 and the circuit components. Return the feedback divider (RADJ) to this net.", K5 GND (power) "Tie these GND pins to a local ground plane below the LTM8033 and the circuit components. Return the feedback divider (RADJ) to this net.", K6 GND (power) "Tie these GND pins to a local ground plane below the LTM8033 and the circuit components. Return the feedback divider (RADJ) to this net.", L5 GND (power) "Tie these GND pins to a local ground plane below the LTM8033 and the circuit components. Return the feedback divider (RADJ) to this net.", L6 GND (power) "Tie these GND pins to a local ground plane below the LTM8033 and the circuit components. Return the feedback divider (RADJ) to this net."